# EAGLE library part DAC8531 (library open-ephys)
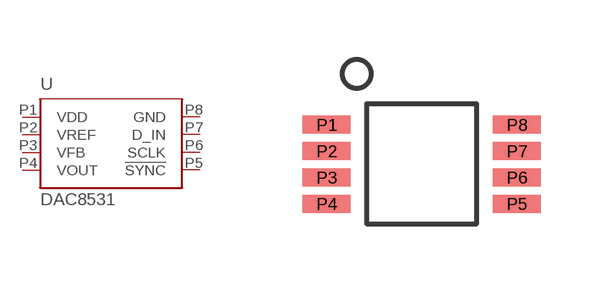
[diagram p11: symbol with the pads of 8-MSOP; footprint 8-MSOP]

Designator prefix -

## DAC8531  [8-MSOP]
P1  VDD
P2  VREF
P3  VFB
P4  VOUT
P5  !SYNC!
P6  SCLK
P7  D_IN
P8  GND

## Footprint 8-MSOP (pad centres in mm)
smd 1.2 x 0.45: P1 -2.375,0.98; P2 -2.375,0.32; P3 -2.375,-0.34; P4 -2.375,-1; P5 2.385,-1; P6 2.385,-0.34; P7 2.385,0.32; P8 2.385,0.98